# Altium schematic symbol library RES55.Schlib: 1 symbol
Pins are listed as number, name and electrical type; pins without a type are passive.

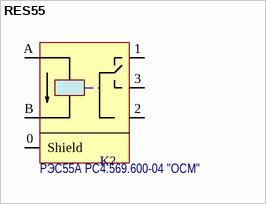
[diagram p0: symbol RES55]

## RES55
designator K?, comment Наименование: РЭС55А РС4.569.600-04 "ОСМ"  (hidden comment: RES55A)
Одностабильное неполяризованное герконовое реле; Потребление, Вт: 0,03; Назначение: Одностабильное неполяризованное герконовое реле; ComponentLink1Description: DataSheet; ComponentLink1URL: https://eandc.ru/pdf/rele/res55.pdf
footprint RES55
pins: 0 Shield, 1, 2, 3, A, B